# Altium footprint library 点阵板.PCBLIB: 4 footprints
Each footprint in its own frame and in the unit in brackets; x right, y up, seen from the top. Pads: shape width x height; smd on the part's side, far side on the other; paste and mask are expansions set on the pad; w line width, h text height; cw(c..) or ccw(c..) is an arc to the next point about the centre after c.
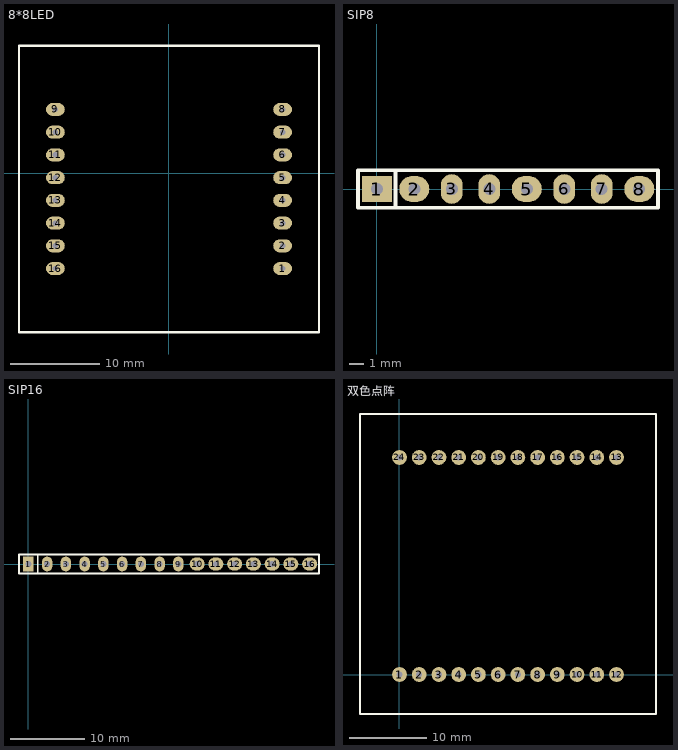
[diagram p0: the footprints below, top view; thin cyan lines are the x and y axes]

## 8*8LED [mm]
pads (16):
  oval 2.1x1.45 hole 0.6: 1(12.704,-10.676) 2(12.704,-8.136) 3(12.704,-5.596) 4(12.704,-3.056) 5(12.704,-0.516) 6(12.704,2.024) 7(12.704,4.564) 8(12.704,7.104) 9(-12.696,7.104) 10(-12.696,4.564) 11(-12.696,2.024) 12(-12.696,-0.516) 13(-12.696,-3.056) 14(-12.696,-5.596) 15(-12.696,-8.136) 16(-12.696,-10.676)
TopOverlay:
  lines w0.254: 16.768,11.168 16.768,14.216 -16.76,14.216 -16.76,12.184 -16.76,-15.756 -16.76,-17.788 16.768,-17.788 16.768,-15.756 16.768,12.184

## SIP8 [mil]
pads (8):
  rect 80x70 hole 32: 1(0.06,0.45)
  oval 80x70 hole 32: 2(100.06,0.45) 5(400.06,0.45) 8(700.06,0.45)
  oval 58.66x78.74 hole 32: 3(200.06,0.45) 4(300.06,0.45) 6(500.06,0.45) 7(600.06,0.45)
TopOverlay:
  lines w10: 50.06,-49.55 50.06,50.45 ; -49.94,-49.55 750.06,-49.55 750.06,50.45 -49.94,50.45 -49.94,-49.55

## SIP16 [mil]
pads (16):
  rect 55.12x78.74 hole 32: 1(0.38,0.46)
  oval 55.12x78.74 hole 32: 2(100.38,0.46) 3(200.38,0.46) 4(300.38,0.46) 5(400.38,0.46) 6(500.38,0.46) 7(600.38,0.46) 8(700.38,0.46) 9(800.38,0.46)
  oval 80x70 hole 32: 10(900.38,0.46) 11(1000.38,0.46) 12(1100.38,0.46) 13(1200.38,0.46) 14(1300.38,0.46) 15(1400.38,0.46) 16(1500.38,0.46)
TopOverlay:
  lines w10: 50.38,-49.54 50.38,50.46 ; -49.62,-49.54 1550.38,-49.54 1550.38,50.46 -49.62,50.46 -49.62,-49.54

## 双色点阵 [mil]
pads (24):
  round 75 hole 30: 1(0,0) 2(100,0) 3(200,0) 4(300,0) 5(400,0) 6(500,0) 7(600,0) 8(700,0) 9(800,0) 10(900,0) 11(1000,0) 12(1100,0) 13(1100,1100) 14(1000,1100) 15(900,1100) 16(800,1100) 17(700,1100) 18(600,1100) 19(500,1100) 20(400,1100) 21(300,1100) 22(200,1100) 23(100,1100) 24(0,1100)
TopOverlay:
  lines w10: -200,-200 -200,680 -200,960 -200,1320 1180,1320 1300,1320 1300,-200 -200,-200